# Altium schematic symbol library B3B-XH-A.SchLib: 1 symbol
Pins are listed as number, name and electrical type; pins without a type are passive.

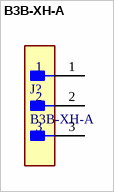
[diagram p0: symbol B3B-XH-A]

## B3B-XH-A
designator J?
footprint B3B-XH-A
pins: 1, 2, 3